# EAGLE library part TFD?4100 (library opto-vishay)
2.7 V to 5.5 V Serial Infrared Transceiver Module Family (SIR, 115.2 kbit/s) Vishay Telefunken
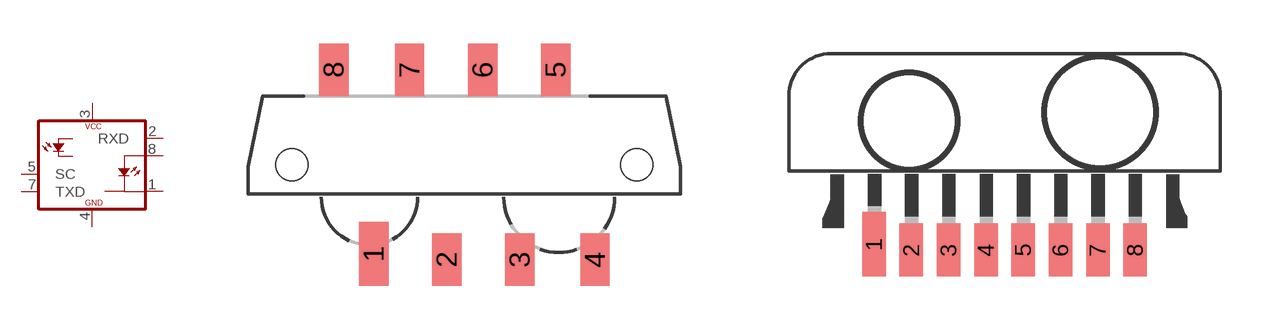
[diagram p0: symbol with the pads of TFDS4; footprints TFDS4, TFDT4]

Designator prefix IR

## TFDS4100  [TFDS4]
1  IRED-C  out
2  RXD  out
3  VCC  pwr
4  GND  pwr
5  SC  in
7  TXD  in
8  IRED-A  pas

## TFDT4100  [TFDT4]
1  IRED-A  pas
2  IRED-C  out
3  TXD  in
4  RXD  out
6  VCC  pwr
7  SC  in
8  GND  pwr

## TFDUH4100  [TFDU4-HOR]
Pads as for TFDT4

## TFDUV4100  [TFDU4-VER]
Pads as for TFDT4

## Footprint TFDS4 (pad centres in mm)
TFDS4500 Side View Package Vishay Telefunken
smd 1 x 2.2: 1 -3.1,-3.05
smd 1 x 1.8: 2 -0.6,-3.25; 3 1.9,-3.25; 4 4.48,-3.25; 5 3.13,3.25; 6 0.63,3.25; 7 -1.87,3.25; 8 -4.47,3.25
hole 1.1 at -5.9,0
hole 1.1 at 5.9,0

## Footprint TFDT4 (pad centres in mm)
TFDS4100 Top View Vishay Telefunken
smd 0.8 x 2.2: 1 -4.445,0.2
smd 0.8 x 1.8: 2 -3.175,0; 3 -1.905,0; 4 -0.635,0; 5 0.635,0; 6 1.905,0; 7 3.175,0; 8 4.445,0

## Footprint TFDU4-HOR (pad centres in mm)
TFDU4100 BabyFace horizontal (Universal) Vishay Telefunken
smd 0.6 x 2.5: 1 -3.5,0; 2 -2.5,0; 3 -1.5,0; 4 -0.5,0; 5 0.5,0; 6 1.5,0; 7 2.5,0; 8 3.5,0

## Footprint TFDU4-VER (pad centres in mm)
TFDU4100 BabyFace vertical (Universal) Vishay Telefunken
smd 0.6 x 2.5: 1 -3.5,-0.9; 2 -2.5,-0.9; 3 -1.5,-0.9; 4 -0.5,-0.9; 5 0.5,-0.9; 6 1.5,-0.9; 7 2.5,-0.9; 8 3.5,-0.9